# Altium schematic symbol library mr30pw-m.SchLib: 1 symbol
Pins are listed as number, name and electrical type; pins without a type are passive.

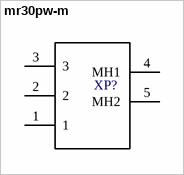
[diagram p0: symbol mr30pw-m]

## mr30pw-m
designator XP?  (value not drawn)
footprint PCBComponent_1
pins: 1, 2, 3, 4 MH1, 5 MH2